# Altium footprint library SM02B-PASS-TBTLFSN.PcbLib: 1 footprints
Each footprint in its own frame and in the unit in brackets; x right, y up, seen from the top. Pads: shape width x height; smd on the part's side, far side on the other; paste and mask are expansions set on the pad; w line width, h text height; cw(c..) or ccw(c..) is an arc to the next point about the centre after c.
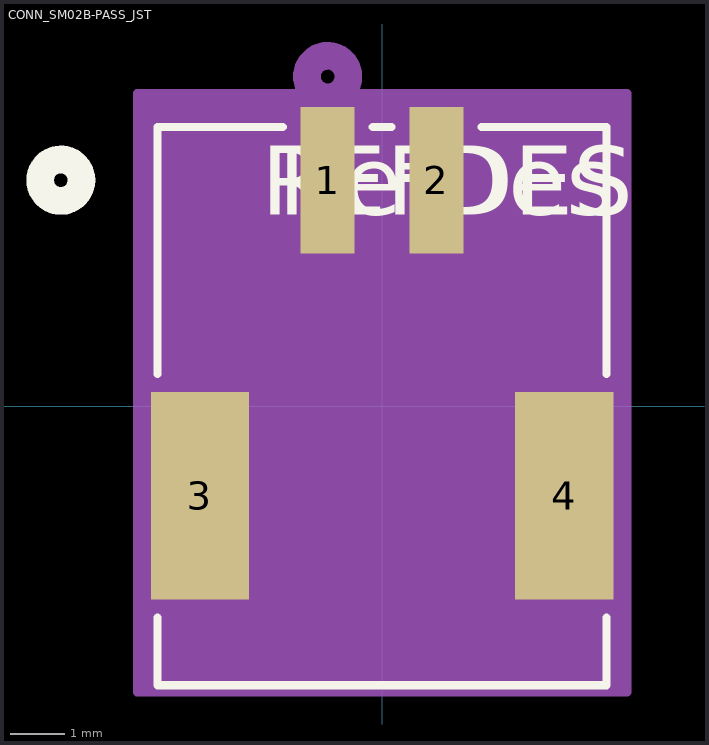
[diagram p0: the footprint, top view; thin cyan lines are the x and y axes]

## CONN_SM02B-PASS_JST [mil]
pads (4):
  rect 39x106 smd paste+0 mask+0: 1(-39.37,163.54) 2(39.37,163.54)
  rect 71x150 smd paste-75 mask-75: 3(-131.89,-64.81) 4(131.89,-64.81)
Top Overlay:
  circle w20: c-232.5,163.54 r15
  lines w6: -162.5,-152.91 -162.5,-202 162.5,-202 162.5,-152.91 ; -162.5,23.29 -162.5,202 -71.97,202 ; -6.77,202 6.77,202 ; 71.97,202 162.5,202 162.5,23.29
  text "RefDes" at -75,138.54 h50
  text "REFDES" at -87.5,138.54 h50
Bottom Overlay:
  circle w20: c-232.5,163.54 r15
Mechanical 13:
  circle w20: c-39.37,238.54 r15
  lines w1: -157.5,-197 157.5,-197 157.5,197 -157.5,197 -157.5,-197
  text "RefDes2" at -87.5,138.54 h50
Mechanical 15:
  region: 177.39,226.54 -177.39,226.54 -177.39,-207 177.39,-207
  lines w6: -177.39,-207 -177.39,226.54 177.39,226.54 177.39,-207 -177.39,-207